# Altium schematic symbol library DS-1043-24.Schlib: 1 symbol
Pins are listed as number, name and electrical type; pins without a type are passive.

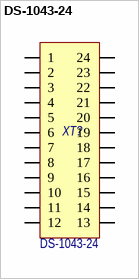
[diagram p0: symbol DS-1043-24]

## DS-1043-24
designator XT?
DIP-24 Zero Insertion Force (ZIF) socket; Назначение: Панель с нулевым усилием (ZIF) для DIP-24; Наименование: DS-1043-24
footprint DS-1043-24 (DIP-24 ZIF socket)
pins: 1, 2, 3, 4, 5, 6, 7, 8, 9, 10, 11, 12, 13, 14, 15, 16, 17, 18, 19, 20, 21, 22, 23, 24